# EAGLE library part 74AC11824 (library 74ac-logic)
9-bit inverting bus interface LATCH
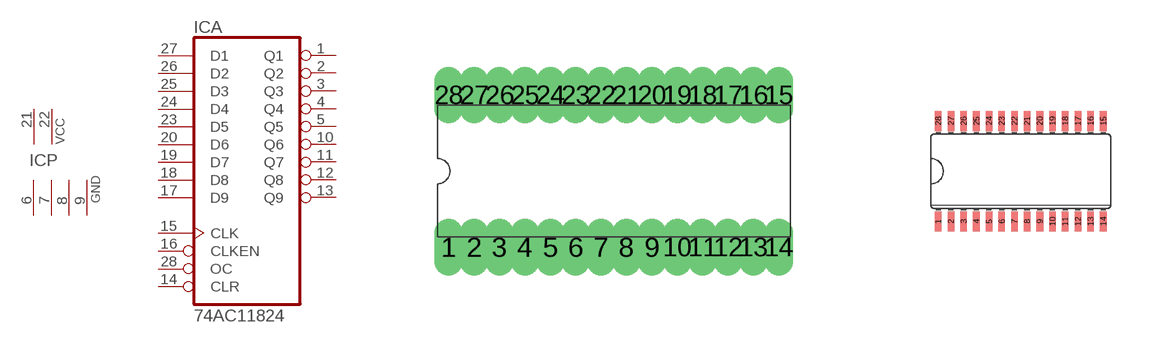
[diagram p55: symbol with the pads of DIL28-6; footprints DIL28-6, SO28W]

Designator prefix IC; gates A=7411824 P=2PWR4GND

## 74AC11824  [DIL28-6]
1  A:Q1  hiz
2  A:Q2  hiz
3  A:Q3  hiz
4  A:Q4  hiz
5  A:Q5  hiz
6  P:GND  pwr
7  P:GND  pwr
8  P:GND  pwr
9  P:GND  pwr
10  A:Q6  hiz
11  A:Q7  hiz
12  A:Q8  hiz
13  A:Q9  hiz
14  A:CLR  in
15  A:CLK  in
16  A:CLKEN  in
17  A:D9  in
18  A:D8  in
19  A:D7  in
20  A:D6  in
21  P:VCC  pwr
22  P:VCC  pwr
23  A:D5  in
24  A:D4  in
25  A:D3  in
26  A:D2  in
27  A:D1  in
28  A:OC  in

## 74AC11824D  [SO28W]
Pads as for DIL28-6

## Footprint DIL28-6 (pad centres in mm)
Dual In Line Package 0.6 inch
drill 0.203 long: 1 -4.128,-1.905; 2 -3.493,-1.905; 3 -2.857,-1.905; 4 -2.223,-1.905; 5 -1.587,-1.905; 6 -0.953,-1.905; 7 -0.318,-1.905; 8 0.318,-1.905; 9 0.953,-1.905; 10 1.587,-1.905; 11 2.223,-1.905; 12 2.857,-1.905; 13 3.493,-1.905; 14 4.128,-1.905; 15 4.128,1.905; 16 3.493,1.905; 17 2.857,1.905; 18 2.223,1.905; 19 1.587,1.905; 20 0.953,1.905; 21 0.318,1.905; 22 -0.318,1.905; 23 -0.953,1.905; 24 -1.587,1.905; 25 -2.223,1.905; 26 -2.857,1.905; 27 -3.493,1.905; 28 -4.128,1.905

## Footprint SO28W (pad centres in mm)
Wide Small Outline package 300 mil
smd 0.165 x 0.508: 1 -2.064,-1.257; 2 -1.746,-1.257; 3 -1.429,-1.257; 4 -1.111,-1.257; 5 -0.794,-1.257; 6 -0.476,-1.257; 7 -0.159,-1.257; 8 0.159,-1.257; 9 0.476,-1.257; 10 0.794,-1.257; 11 1.111,-1.257; 12 1.429,-1.257; 13 1.746,-1.257; 14 2.064,-1.257; 15 2.064,1.257; 16 1.746,1.257; 17 1.429,1.257; 18 1.111,1.257; 19 0.794,1.257; 20 0.476,1.257; 21 0.159,1.257; 22 -0.159,1.257; 23 -0.476,1.257; 24 -0.794,1.257; 25 -1.111,1.257; 26 -1.429,1.257; 27 -1.746,1.257; 28 -2.064,1.257